# EAGLE library part 8205S (library micwl)
8205S Dual Power MOSFET
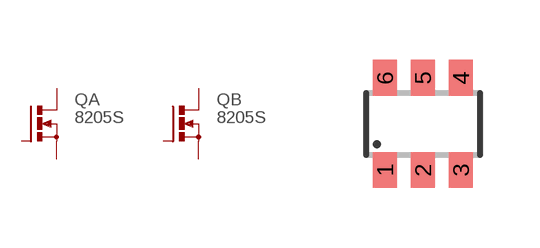
[diagram p0: symbol with the pads of SOT23-6; footprint SOT23-6]

Designator prefix Q; gates A=MFN B=MFN

## 8205S  [SOT23-6]
1  A:G  pas
2  B:S  pas
3  B:G  pas
4  B:D  pas
5  A:S  pas
6  A:D  pas

## Footprint SOT23-6 (pad centres in mm)
Small Outline Transistor 6 lead
smd 0.6 x 0.9: 1 -0.95,-1.15; 2 0,-1.15; 3 0.95,-1.15; 4 0.95,1.15; 5 0,1.15; 6 -0.95,1.15